# EAGLE library part AS-ITM-00341 (library tinycircuits)
OLED SCREEN WHITE 0.96" 128X64
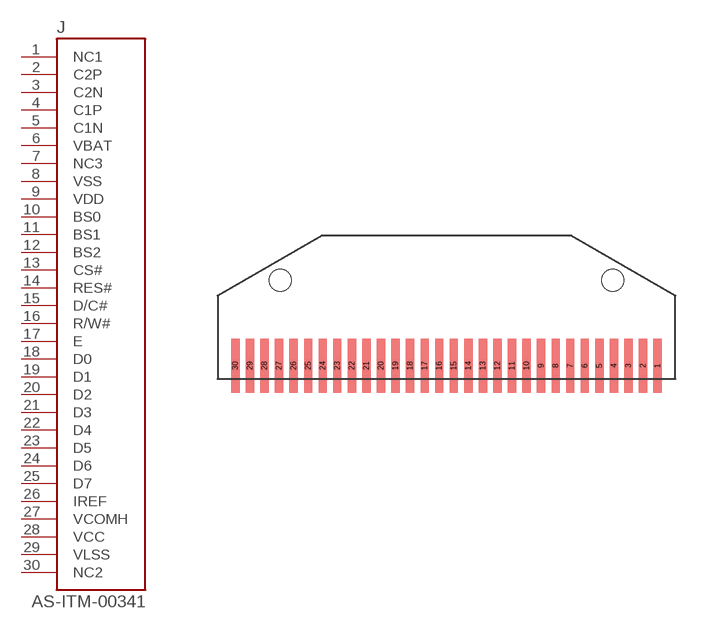
[diagram p135: symbol with the pads of OLED_WHITE_30P; footprint OLED_WHITE_30P]

Designator prefix J

## AS-ITM-00341 (PARTNO: AS-ITM-00341; VALUE: OLED)  [OLED_WHITE_30P]
1  NC1
2  C2P
3  C2N
4  C1P
5  C1N
6  VBAT
7  NC3
8  VSS
9  VDD
10  BS0
11  BS1
12  BS2
13  CS#
14  RES#
15  D/C#
16  R/W#
17  E
18  D0
19  D1
20  D2
21  D3
22  D4
23  D5
24  D6
25  D7
26  IREF
27  VCOMH
28  VCC
29  VLSS
30  NC2

## Footprint OLED_WHITE_30P (pad centres in mm)
smd 0.4 x 2.6: 1 10.15,-2.36; 2 9.45,-2.36; 3 8.75,-2.36; 4 8.05,-2.36; 5 7.35,-2.36; 6 6.65,-2.36; 7 5.95,-2.36; 8 5.25,-2.36; 9 4.55,-2.36; 10 3.85,-2.36; 11 3.15,-2.36; 12 2.45,-2.36; 13 1.75,-2.36; 14 1.05,-2.36; 15 0.35,-2.36; 16 -0.35,-2.36; 17 -1.05,-2.36; 18 -1.75,-2.36; 19 -2.45,-2.36; 20 -3.15,-2.36; 21 -3.85,-2.36; 22 -4.55,-2.36; 23 -5.25,-2.36; 24 -5.95,-2.36; 25 -6.65,-2.36; 26 -7.35,-2.36; 27 -8.05,-2.36; 28 -8.75,-2.36; 29 -9.45,-2.36; 30 -10.15,-2.36
hole 1.05 at 8,1.75
hole 1.05 at -8,1.75